# EAGLE library part BQ76940 (library BQ769x0)
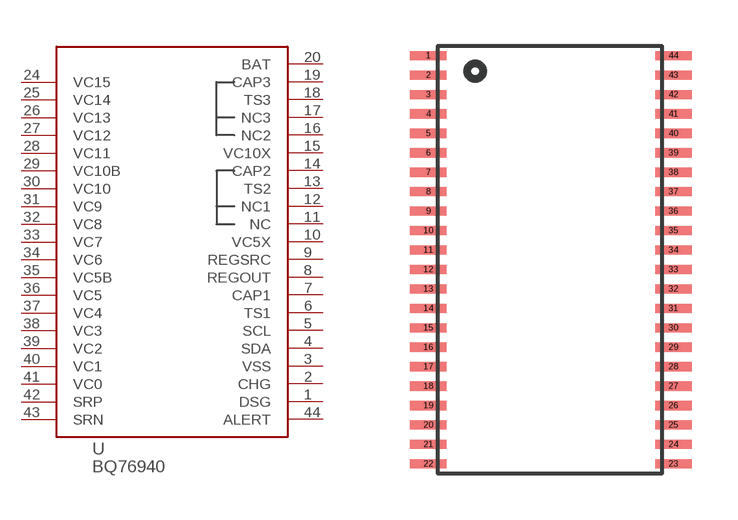
[diagram p1: symbol with the pads of TSSOP44; footprint TSSOP44]

Designator prefix -

## BQ76940  [TSSOP44]
1  DSG
2  CHG
3  VSS
4  SDA
5  SCL
6  TS1
7  CAP1
8  REGOUT
9  REGSRC
10  VC5X
11  NC
12  NC1
13  TS2
14  CAP2
15  VC10X
16  NC2
17  NC3
18  TS3
19  CAP3
20  BAT
24  VC15
25  VC14
26  VC13
27  VC12
28  VC11
29  VC10B
30  VC10
31  VC9
32  VC8
33  VC7
34  VC6
35  VC5B
36  VC5
37  VC4
38  VC3
39  VC2
40  VC1
41  VC0
42  SRP
43  SRN
44  ALERT

## Footprint TSSOP44 (pad centres in mm)
smd 1.19 x 0.3: 1 -3.81,6.35; 2 -3.81,5.715; 3 -3.81,5.08; 4 -3.81,4.445; 5 -3.81,3.81; 6 -3.81,3.175; 7 -3.81,2.54; 8 -3.81,1.905; 9 -3.81,1.27; 10 -3.81,0.635; 11 -3.81,0; 12 -3.81,-0.635; 13 -3.81,-1.27; 14 -3.81,-1.905; 15 -3.81,-2.54; 16 -3.81,-3.175; 17 -3.81,-3.81; 18 -3.81,-4.445; 19 -3.81,-5.08; 20 -3.81,-5.715; 21 -3.81,-6.35; 22 -3.81,-6.985; 23 4.19,-6.985; 24 4.19,-6.35; 25 4.19,-5.715; 26 4.19,-5.08; 27 4.19,-4.445; 28 4.19,-3.81; 29 4.19,-3.175; 30 4.19,-2.54; 31 4.19,-1.905; 32 4.19,-1.27; 33 4.19,-0.635; 34 4.19,0; 35 4.19,0.635; 36 4.19,1.27; 37 4.19,1.905; 38 4.19,2.54; 39 4.19,3.175; 40 4.19,3.81; 41 4.19,4.445; 42 4.19,5.08; 43 4.19,5.715; 44 4.19,6.35